# Altium footprint library RAHUA20E.PcbLib: 1 footprints
Each footprint in its own frame and in the unit in brackets; x right, y up, seen from the top. Pads: shape width x height; smd on the part's side, far side on the other; paste and mask are expansions set on the pad; w line width, h text height; cw(c..) or ccw(c..) is an arc to the next point about the centre after c.
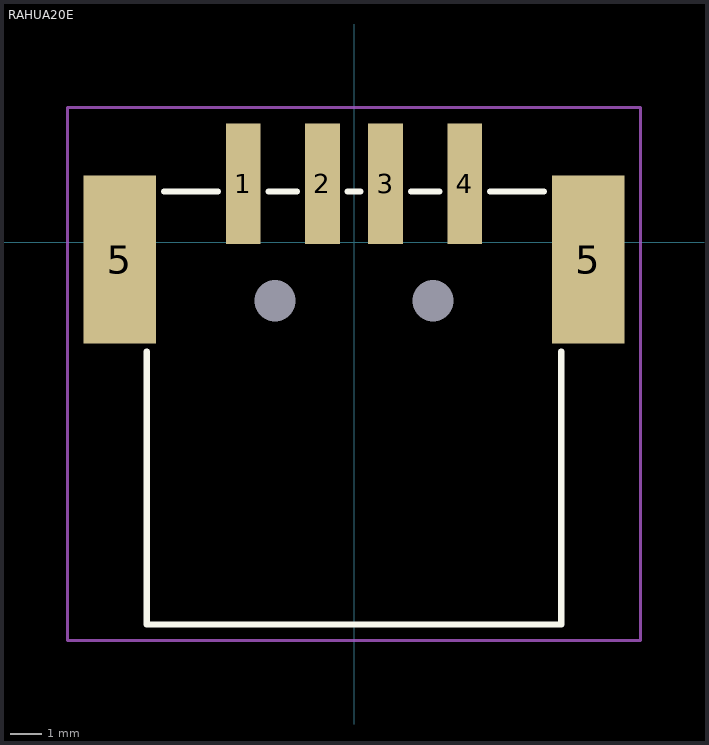
[diagram p0: the footprint, top view; thin cyan lines are the x and y axes]

## RAHUA20E [mm] "USB Type-A 2.0 Connector, Right Angle Horizontal Surface Mount"
height 16.1
pads (8):
  rect 0x0 hole 1.3 unplated: 0(-2.5,-1.85) 0(2.5,-1.85)
  rect 1.1x3.8 smd: 1(-3.5,1.85) 2(-1,1.85) 3(1,1.85) 4(3.5,1.85)
  rect 2.3x5.3 smd: 5(-7.4,-0.55) 5(7.4,-0.55)
Top Overlay:
  lines w0.2: -6.55,-3.45 -6.55,-12.075 6.55,-12.075 6.55,-3.45 ; -6,1.6 -4.3,1.6 ; -2.7,1.6 -1.8,1.6 ; -0.2,1.6 0.2,1.6 ; 1.8,1.6 2.7,1.6 ; 4.3,1.6 6,1.6
Top Courtyard:
  lines w0.1: -9.05,-12.575 9.05,-12.575 9.05,4.25 -9.05,4.25 -9.05,-12.575
3D body "RAHUA20E.STEP": height 7.76, standoff -0.54, extent -8.05,-12.075 8.05,3.125